# Altium schematic symbol library LM7805MP_NOPB.SchLib: 1 symbol
Pins are listed as number, name and electrical type; pins without a type are passive.

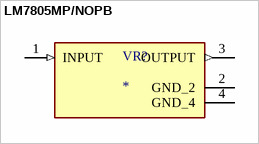
[diagram p0: symbol LM7805MP/NOPB]

## LM7805MP/NOPB
designator VR?
1.5-A, 30-V, linear voltage regulator; MP: LM7805MP/NOPB; MF: Texas Instruments; SnapEDA_Link: https://www.snapeda.com/parts/LM7805MP/NOPB/Texas+Instruments/view-part/?ref=snap; Package: SOT-223-4 Texas Instruments; Check_prices: https://www.snapeda.com/parts/LM7805MP/NOPB/Texas+Instruments/view-part/?ref=eda; Purchase-URL: https://pricing.snapeda.com/search/part/LM7805MP/NOPB/?ref=eda; Price: None; Value: *; Availability: In Stock
footprint VREG_LM7805MP/NOPB
pins: 1 INPUT (in), 2 GND_2 (power), 3 OUTPUT (out), 4 GND_4 (power)